# EAGLE library part IN-1 (library nixies)
Soviet IN-1 Nixie Tube
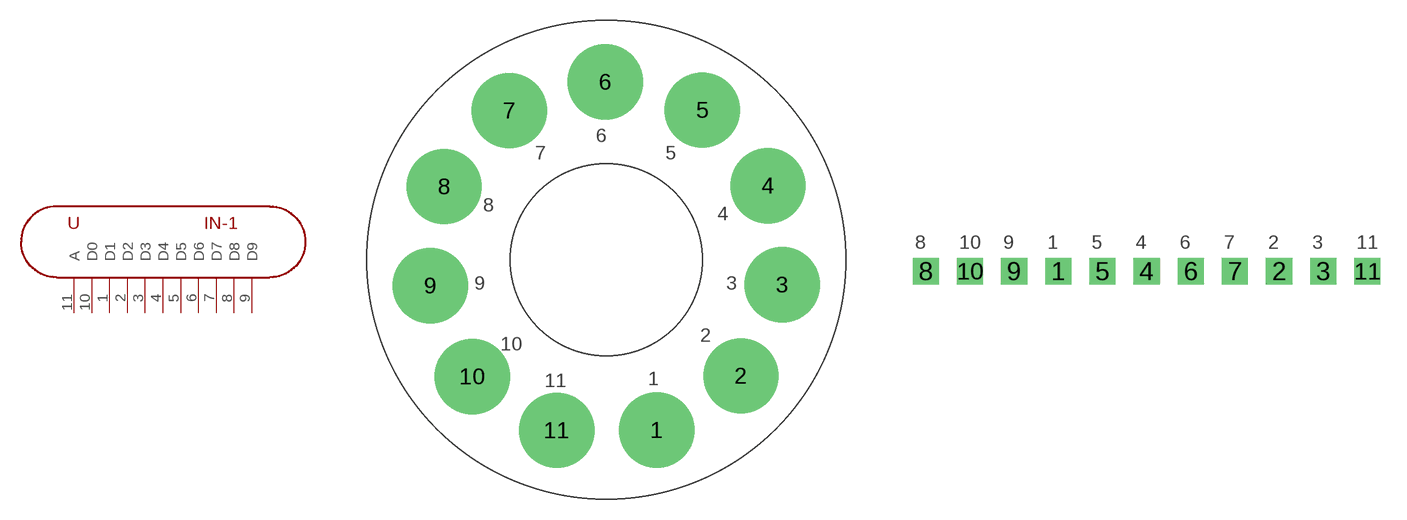
[diagram p0: symbol with the pads of IN-1; footprints IN-1, IN-1-HEADER]

Designator prefix -

## IN-1SOCKET (VALUE: IN-1)  [IN-1]
1  D1
2  D2
3  D3
4  D4
5  D5
6  D6
7  D7
8  D8
9  D9
10  D0
11  A

## IN-1HEADER  [IN-1-HEADER]
Pads as for IN-1

## Footprint IN-1 (pad centres in mm)
drill 4 pad 5.5: 1 -3.161,-28.041; 2 2.987,-24.071; 3 6.017,-17.408; 4 4.967,-10.165; 5 0.17,-4.637; 6 -6.922,-2.576; 7 -13.934,-4.674; 8 -18.702,-10.227; 9 -19.714,-17.475; 10 -16.65,-24.122; 11 -10.48,-28.06

## Footprint IN-1-HEADER (pad centres in mm)
drill 1 square: 1 5.08,0; 2 17.78,0; 3 20.32,0; 4 10.16,0; 5 7.62,0; 6 12.7,0; 7 15.24,0; 8 -2.54,0; 9 2.54,0; 10 0,0; 11 22.86,0